# EAGLE library part S-PPU2(5C78) (library snes_mb)
Picture Processing Unit
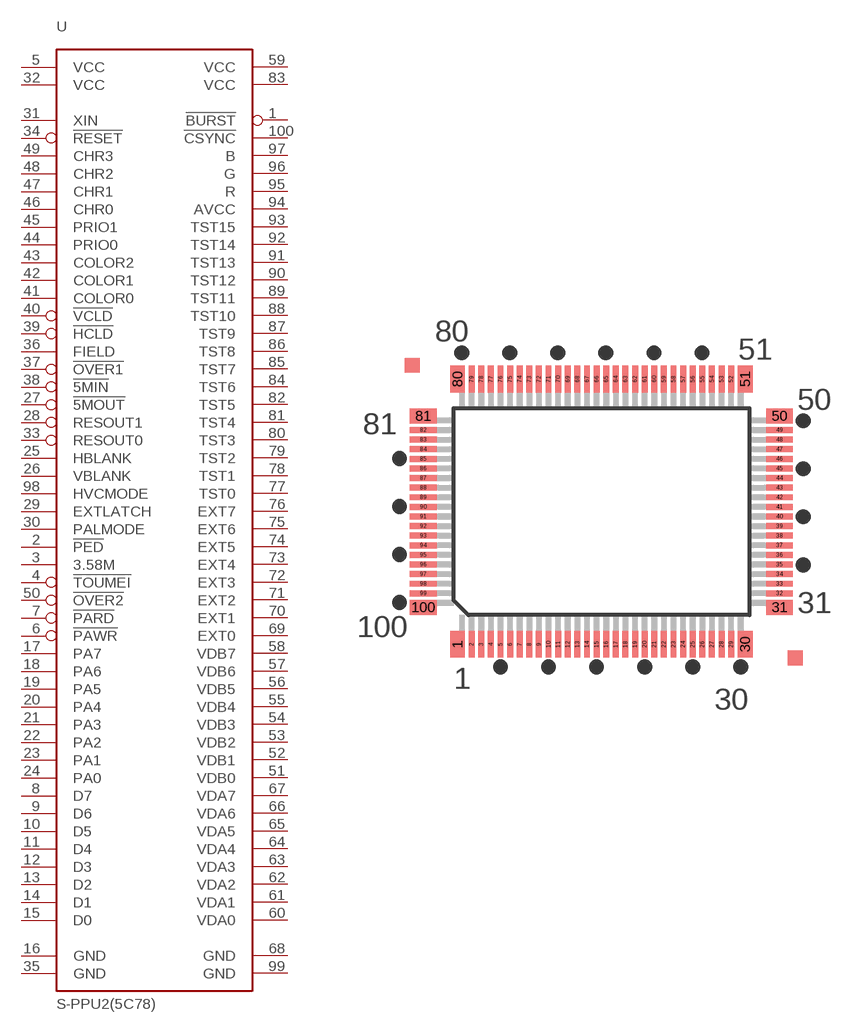
[diagram p4: symbol with the pads of 100QFP0.65; footprint 100QFP0.65]

Designator prefix U

## S-PPU2(5C78)  [100QFP0.65]
1  !BURST
2  !PED
3  3.58M
4  !TOUMEI
5  VCC  pwr
6  !PAWR
7  !PARD
8  D7
9  D6
10  D5
11  D4
12  D3
13  D2
14  D1
15  D0
16  GND  pwr
17  PA7
18  PA6
19  PA5
20  PA4
21  PA3
22  PA2
23  PA1
24  PA0
25  HBLANK
26  VBLANK
27  !5MOUT
28  RESOUT1
29  EXTLATCH
30  PALMODE
31  XIN
32  VCC  pwr
33  RESOUT0
34  !RESET
35  GND  pwr
36  FIELD
37  !OVER1
38  !5MIN
39  !HCLD
40  !VCLD
41  COLOR0
42  COLOR1
43  COLOR2
44  PRIO0
45  PRIO1
46  CHR0
47  CHR1
48  CHR2
49  CHR3
50  !OVER2
51  VDB0
52  VDB1
53  VDB2
54  VDB3
55  VDB4
56  VDB5
57  VDB6
58  VDB7
59  VCC  pwr
60  VDA0
61  VDA1
62  VDA2
63  VDA3
64  VDA4
65  VDA5
66  VDA6
67  VDA7
68  GND  pwr
69  EXT0
70  EXT1
71  EXT2
72  EXT3
73  EXT4
74  EXT5
75  EXT6
76  EXT7
77  TST0
78  TST1
79  TST2
80  TST3
81  TST4
82  TST5
83  VCC  pwr
84  TST6
85  TST7
86  TST8
87  TST9
88  TST10
89  TST11
90  TST12
91  TST13
92  TST14
93  TST15
94  AVCC
95  R
96  G
97  B
98  HVCMODE
99  GND  pwr
100  !CSYNC

## Footprint 100QFP0.65 (pad centres in mm)
smd 1 x 1.8: 1 -9.725,-8.975; 30 9.725,-8.975; 51 9.725,8.975; 80 -9.725,8.975
smd 0.4 x 1.8: 2 -8.775,-8.975; 3 -8.125,-8.975; 4 -7.475,-8.975; 5 -6.825,-8.975; 6 -6.175,-8.975; 7 -5.525,-8.975; 8 -4.875,-8.975; 9 -4.225,-8.975; 10 -3.575,-8.975; 11 -2.925,-8.975; 12 -2.275,-8.975; 13 -1.625,-8.975; 14 -0.975,-8.975; 15 -0.325,-8.975; 16 0.325,-8.975; 17 0.975,-8.975; 18 1.625,-8.975; 19 2.275,-8.975; 20 2.925,-8.975; 21 3.575,-8.975; 22 4.225,-8.975; 23 4.875,-8.975; 24 5.525,-8.975; 25 6.175,-8.975; 26 6.825,-8.975; 27 7.475,-8.975; 28 8.125,-8.975; 29 8.775,-8.975; 52 8.775,8.975; 53 8.125,8.975; 54 7.475,8.975; 55 6.825,8.975; 56 6.175,8.975; 57 5.525,8.975; 58 4.875,8.975; 59 4.225,8.975; 60 3.575,8.975; 61 2.925,8.975; 62 2.275,8.975; 63 1.625,8.975; 64 0.975,8.975; 65 0.325,8.975; 66 -0.325,8.975; 67 -0.975,8.975; 68 -1.625,8.975; 69 -2.275,8.975; 70 -2.925,8.975; 71 -3.575,8.975; 72 -4.225,8.975; 73 -4.875,8.975; 74 -5.525,8.975; 75 -6.175,8.975; 76 -6.825,8.975; 77 -7.475,8.975; 78 -8.125,8.975; 79 -8.775,8.975
smd 1.8 x 1: 31 12.045,-6.475; 50 12.045,6.475; 81 -12.045,6.475; 100 -12.045,-6.475
smd 1.8 x 0.4: 32 12.045,-5.525; 33 12.045,-4.875; 34 12.045,-4.225; 35 12.045,-3.575; 36 12.045,-2.925; 37 12.045,-2.275; 38 12.045,-1.625; 39 12.045,-0.975; 40 12.045,-0.325; 41 12.045,0.325; 42 12.045,0.975; 43 12.045,1.625; 44 12.045,2.275; 45 12.045,2.925; 46 12.045,3.575; 47 12.045,4.225; 48 12.045,4.875; 49 12.045,5.525; 82 -12.045,5.525; 83 -12.045,4.875; 84 -12.045,4.225; 85 -12.045,3.575; 86 -12.045,2.925; 87 -12.045,2.275; 88 -12.045,1.625; 89 -12.045,0.975; 90 -12.045,0.325; 91 -12.045,-0.325; 92 -12.045,-0.975; 93 -12.045,-1.625; 94 -12.045,-2.275; 95 -12.045,-2.925; 96 -12.045,-3.575; 97 -12.045,-4.225; 98 -12.045,-4.875; 99 -12.045,-5.525